# Altium integrated library 87224-8.IntLib: 1 symbol
Pins are listed as number, name and electrical type; pins without a type are passive.

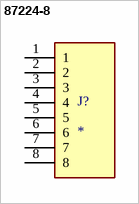
[diagram p0: symbol 87224-8]

## 87224-8
designator J?
08 MODII HDR SRST UNSHRD .100; MF: TE Connectivity; Product_Type: Connector; Centerline_Pitch: 2.54 mm[.1 in]; MP: 87224-8; Number_of_Positions: 8; Purchase-URL: https://pricing.snapeda.com/search/part/87224-8/?ref=eda; Package: None; Availability: Good; Value: *; Check_prices: https://www.snapeda.com/parts/87224-8/TE%20Connectivity%20AMP%20Connectors/view-part/265668/?ref=eda; EU_RoHS_Compliance: Compliant; Price: None; SnapEDA_Link: https://www.snapeda.com/parts/87224-8/TE%20Connectivity%20AMP%20Connectors/view-part/265668/?ref=snap
footprint TE_87224-8
pins: 1, 2, 3, 4, 5, 6, 7, 8